# Altium schematic symbol library Keebs.SchLib: 39 symbols
Pins are listed as number, name and electrical type; pins without a type are passive.

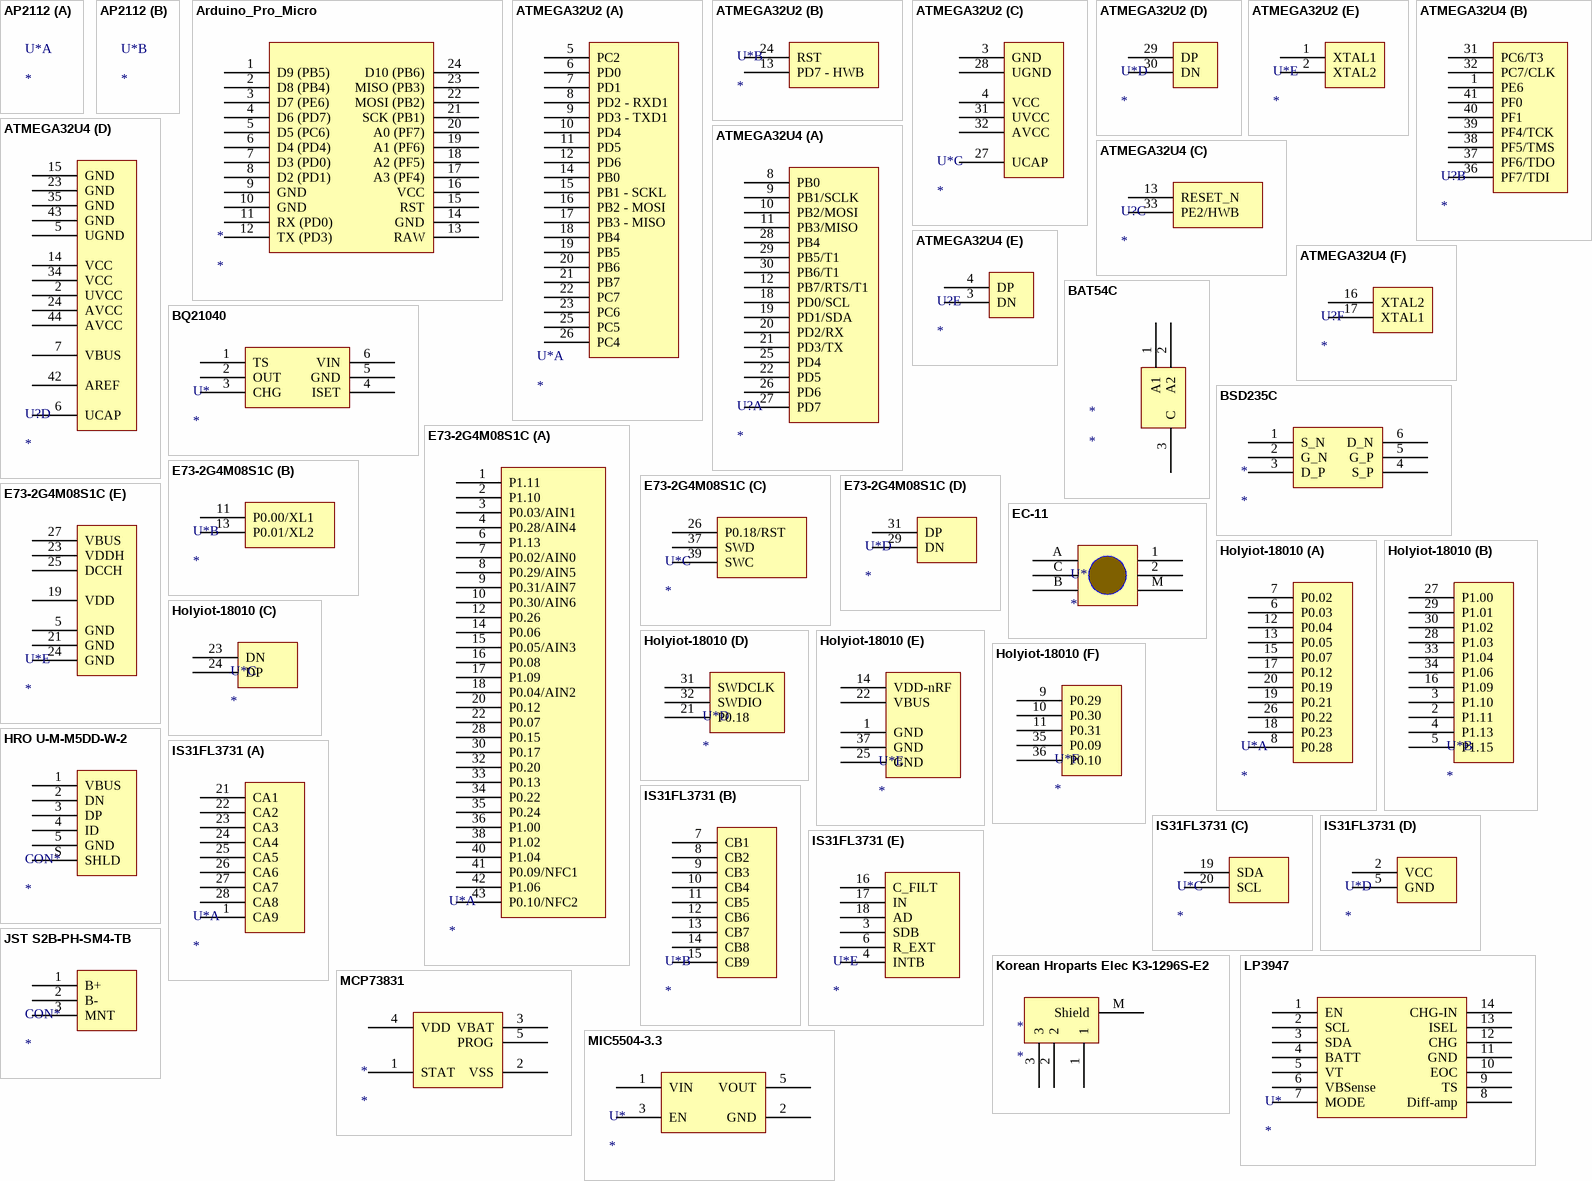
[diagram p0: symbols AP2112 to MIC5504-3.3]

## AP2112
designator U*
footprint SOT-23-5

## Arduino_Pro_Micro
designator *
footprint Arduino_Pro_Micro
pins: 1 D9 (PB5), 2 D8 (PB4), 3 D7 (PE6), 4 D6 (PD7), 5 D5 (PC6), 6 D4 (PD4), 7 D3 (PD0), 8 D2 (PD1), 9 GND, 10 GND, 11 RX (PD0), 12 TX (PD3), 13 RAW, 14 GND, 15 RST, 16 VCC, 17 A3 (PF4), 18 A2 (PF5), 19 A1 (PF6), 20 A0 (PF7), 21 SCK (PB1), 22 MOSI (PB2), 23 MISO (PB3), 24 D10 (PB6)

## ATMEGA32U2
designator U*
MFG: Microchip Technology; MFGPN: ATMEGA32U2-AUR
footprint ATMEGA32U2-LQFP
part A pins: 5 PC2, 6 PD0, 7 PD1, 8 PD2 - RXD1, 9 PD3 - TXD1, 10 PD4, 11 PD5, 12 PD6, 14 PB0, 15 PB1 - SCKL, 16 PB2 - MOSI, 17 PB3 - MISO, 18 PB4, 19 PB5, 20 PB6, 21 PB7, 22 PC7, 23 PC6, 25 PC5, 26 PC4
part B pins: 13 PD7 - HWB, 24 RST
part C pins: 3 GND, 4 VCC, 27 UCAP, 28 UGND, 31 UVCC, 32 AVCC
part D pins: 29 DP, 30 DN
part E pins: 1 XTAL1, 2 XTAL2

## ATMEGA32U4
designator U?
footprint ATMEGA32U4-COMBO (QFP, 44-Leads, Body 9,95x9,95mm, Pitch 0,80mm, IPC Medium Density)
part A pins: 8 PB0, 9 PB1/SCLK, 10 PB2/MOSI, 11 PB3/MISO, 12 PB7/RTS/T1, 18 PD0/SCL, 19 PD1/SDA, 20 PD2/RX, 21 PD3/TX, 22 PD5, 25 PD4, 26 PD6, 27 PD7, 28 PB4, 29 PB5/T1, 30 PB6/T1
part B pins: 1 PE6, 31 PC6/T3, 32 PC7/CLK, 36 PF7/TDI, 37 PF6/TDO, 38 PF5/TMS, 39 PF4/TCK, 40 PF1, 41 PF0
part C pins: 13 RESET_N, 33 PE2/HWB
part D pins: 2 UVCC, 5 UGND, 6 UCAP, 7 VBUS, 14 VCC, 15 GND, 23 GND, 24 AVCC, 34 VCC, 35 GND, 42 AREF, 43 GND, 44 AVCC
part E pins: 3 DN, 4 DP
part F pins: 16 XTAL2, 17 XTAL1

## BAT54C
designator *
footprint SOT-23-3 (3.3v regulator, used in Windsond S2 proto 1)
pins: 1 A1, 2 A2, 3 C

## BQ21040
designator U*
footprint SOT-23-6
pins: 1 TS, 2 OUT, 3 CHG, 4 ISET, 5 GND, 6 VIN

## BSD235C
designator *
footprint SOT-363 - BSD235C (SOT23, 6-Leads, Body 2,00x2,10mm, Pitch 0,65mm, IPC Low Density)
pins: 1 S_N, 2 G_N, 3 D_P, 4 S_P, 5 G_P, 6 D_N

## E73-2G4M08S1C
designator U*
footprint E73-2G4M08S1C
part A pins: 1 P1.11, 2 P1.10, 3 P0.03/AIN1, 4 P0.28/AIN4, 6 P1.13, 7 P0.02/AIN0, 8 P0.29/AIN5, 9 P0.31/AIN7, 10 P0.30/AIN6, 12 P0.26, 14 P0.06, 15 P0.05/AIN3, 16 P0.08, 17 P1.09, 18 P0.04/AIN2, 20 P0.12, 22 P0.07, 28 P0.15, 30 P0.17, 32 P0.20, 33 P0.13, 34 P0.22, 35 P0.24, 36 P1.00, 38 P1.02, 40 P1.04, 41 P0.09/NFC1, 42 P1.06, 43 P0.10/NFC2
part B pins: 11 P0.00/XL1, 13 P0.01/XL2
part C pins: 26 P0.18/RST, 37 SWD, 39 SWC
part D pins: 29 DN, 31 DP
part E pins: 5 GND, 19 VDD, 21 GND, 23 VDDH, 24 GND, 25 DCCH, 27 VBUS

## EC-11
designator U*
footprint EC11-SMD
pins: 1, 2, A B, B, C, M

## Holyiot-18010
designator U*
footprint Holyiot-18010 - removed pads (Holyiot long range Nordic nRF52840 chipset BLE module Ceramic Antenna Bluetooth low Energy for Bluetooth mesh)
footprint Holyiot-18010 - outer pads (Holyiot long range Nordic nRF52840 chipset BLE module Ceramic Antenna Bluetooth low Energy for Bluetooth mesh)
part A pins: 6 P0.03, 7 P0.02, 8 P0.28, 12 P0.04, 13 P0.05, 15 P0.07, 17 P0.12, 18 P0.23, 19 P0.21, 20 P0.19, 26 P0.22
part B pins: 2 P1.11, 3 P1.10, 4 P1.13, 5 P1.15, 16 P1.09, 27 P1.00, 28 P1.03, 29 P1.01, 30 P1.02, 33 P1.04, 34 P1.06
part C pins: 23 DN, 24 DP
part D pins: 21 P0.18, 31 SWDCLK, 32 SWDIO
part E pins: 1 GND, 14 VDD-nRF, 22 VBUS, 25 GND, 37 GND
part F pins: 9 P0.29, 10 P0.30, 11 P0.31, 35 P0.09, 36 P0.10

## HRO U-M-M5DD-W-2
designator CON*
footprint HRO U-M-M5DD-W-2
pins: 1 VBUS, 2 DN, 3 DP, 4 ID, 5 GND, S SHLD

## IS31FL3731
designator U*
MFGPN: IS31FL3731-SALS2; MFG: ISSI, Integrated Silicon Solution Inc
footprint IS31FL3731 - SOP28
footprint IS31FL3731 - QFN
part A pins: 1 CA9, 21 CA1, 22 CA2, 23 CA3, 24 CA4, 25 CA5, 26 CA6, 27 CA7, 28 CA8
part B pins: 7 CB1, 8 CB2, 9 CB3, 10 CB4, 11 CB5, 12 CB6, 13 CB7, 14 CB8, 15 CB9
part C pins: 19 SDA, 20 SCL
part D pins: 2 VCC, 5 GND
part E pins: 3 SDB, 4 INTB, 6 R_EXT, 16 C_FILT, 17 IN, 18 AD

## JST S2B-PH-SM4-TB
designator CON*
footprint JST S2B-PH-SM4-TB
pins: 1 B+, 2 B-, 3 MNT

## Korean Hroparts Elec K3-1296S-E2
designator *
footprint Korean Hroparts Elec K3-1296S-E2
pins: 1, 2, 3, M Shield

## LP3947
designator U*
pins: 1 EN, 2 SCL, 3 SDA, 4 BATT, 5 VT, 6 VBSense, 7 MODE, 8 Diff-amp, 9 TS, 10 EOC, 11 GND, 12 CHG, 13 ISEL, 14 CHG-IN

## MCP73831
designator *
footprint SOT-23-5
pins: 1 STAT, 2 VSS, 3 VBAT, 4 VDD, 5 PROG

## MIC5504-3.3
designator U*
MFG: Microchip Technology; MFGPN: MIC5504-3.3YM5-TR
footprint SOT-23-5
pins: 1 VIN, 2 GND, 3 EN, 5 VOUT

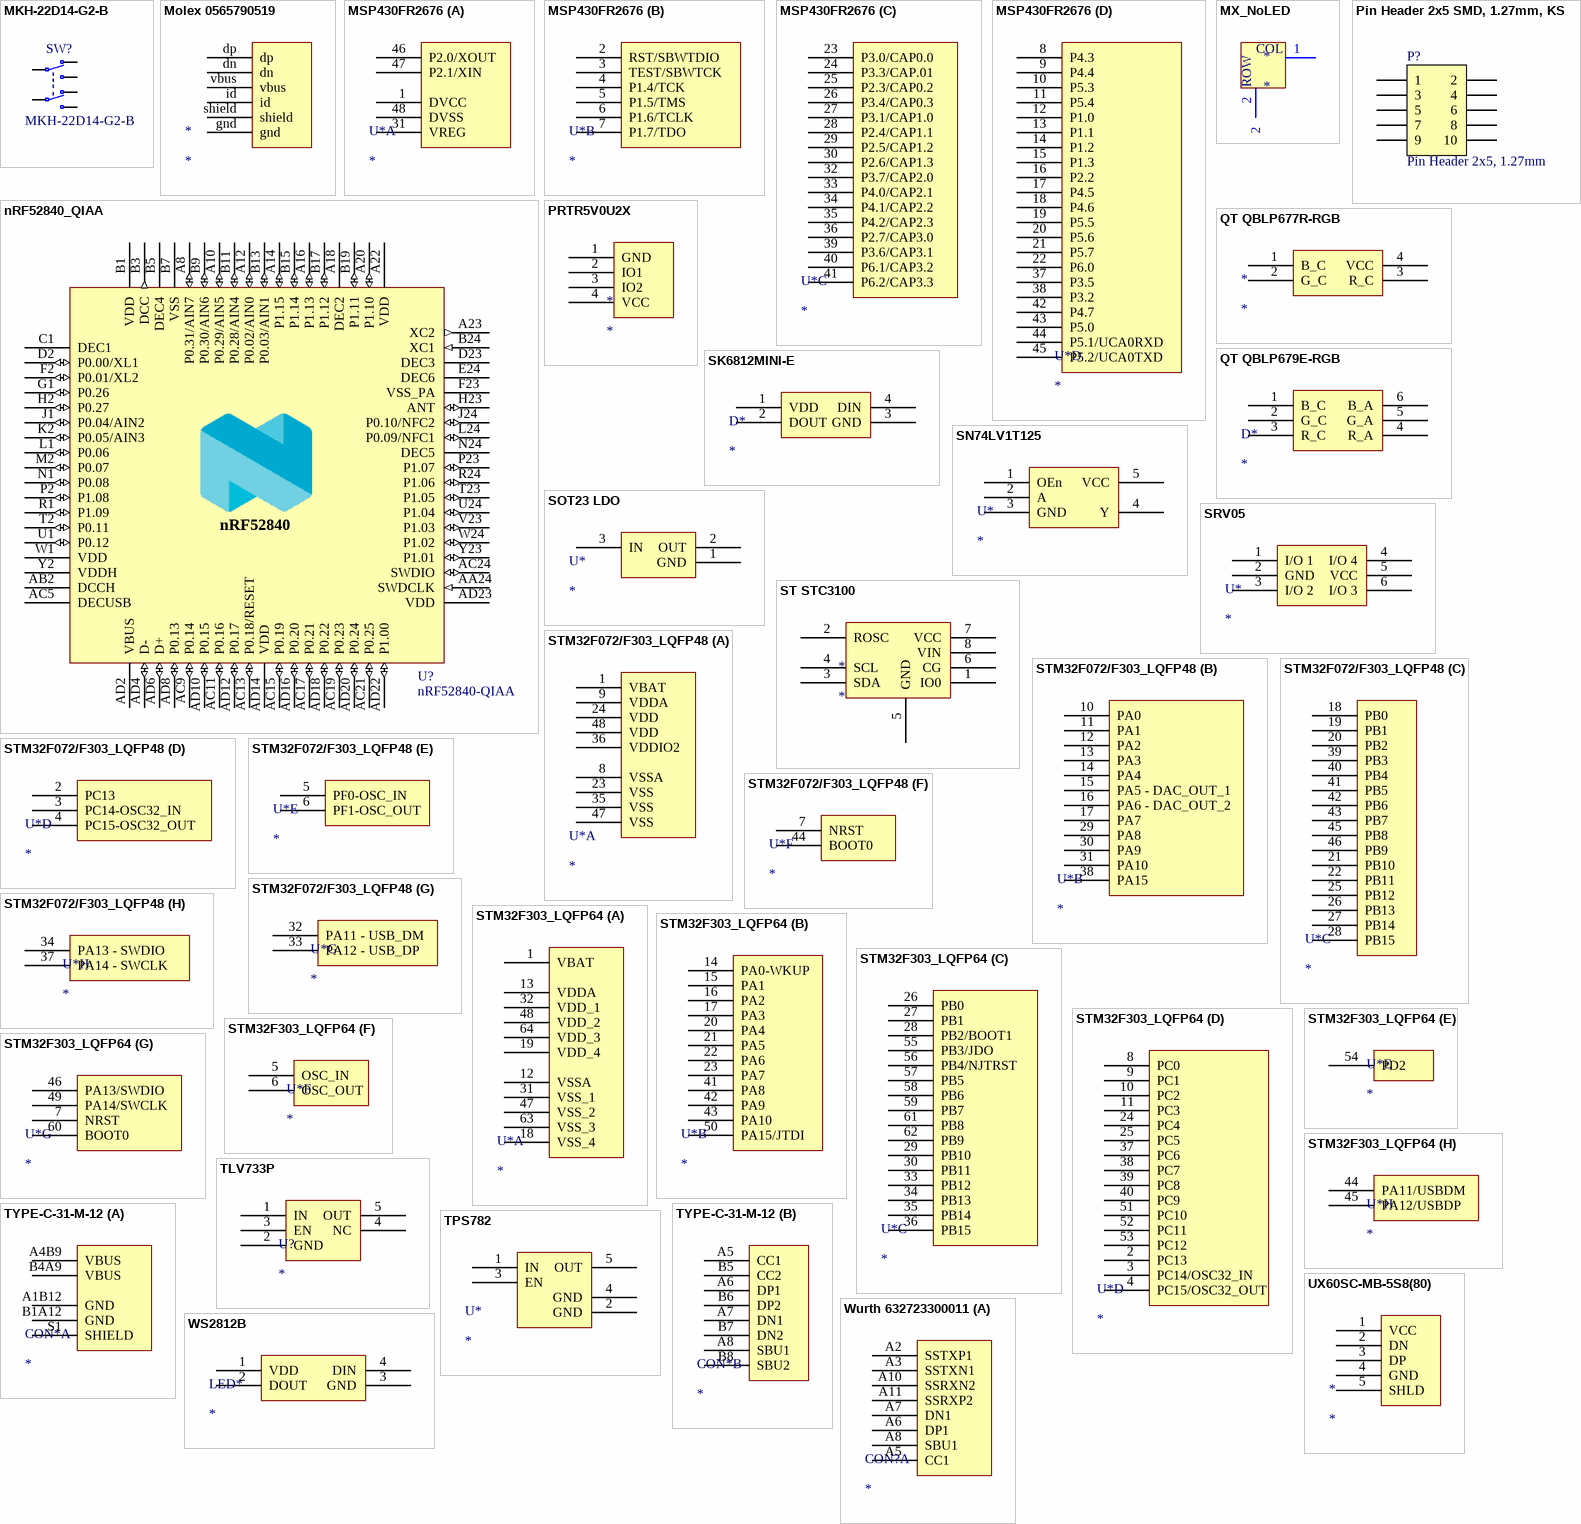
[diagram p1: symbols MKH-22D14-G2-B to Wurth 632723300011]

## MKH-22D14-G2-B
designator SW?
Slide Switch DPDT; Manufacturer: Dailywell; Artikkelnr Noca: 50019112; Artikkelnr Simpro: N.A.; Part Number: MKH-22D14-G2-B; Manufacturer Part Number: MKH-22D14-G2-B; Datasheet: \\hizz\pro\app9717\Datasheet\switches\Dailywell\MKH-22D14-G2-B.pdf; Footprint Doc: MKH-22D14-G2-B; LatestRevisionDate: 2016-08-18; Pin Count: 6; Publisher: Nordic Semiconductor; Published: 2016-08-18; Value: MKH-22D14-G2-B; Note: *; Supplier: *; Supplier part number: *; 2nd source Supplier: *; 2nd source part number: *
footprint MKH-22D14-G2-B
pins: 1 N.O-1, 2 COM-1, 3 N.C-1, 4 N.O-2, 5 COM-2, 6 N.C-2

## Molex 0565790519
designator *
footprint Molex 0565790519 (CONN RCPT USB2.0 MINI AB 5P R/A)
pins: dn, dp, gnd, id, shield, vbus

## MSP430FR2676
designator U*
footprint MSP430FR2676 QFP
part A pins: 1 DVCC, 31 VREG, 46 P2.0/XOUT, 47 P2.1/XIN, 48 DVSS
part B pins: 2 RST/SBWTDIO, 3 TEST/SBWTCK, 4 P1.4/TCK, 5 P1.5/TMS, 6 P1.6/TCLK, 7 P1.7/TDO
part C pins: 23 P3.0/CAP0.0, 24 P3.3/CAP.01, 25 P2.3/CAP0.2, 26 P3.4/CAP0.3, 27 P3.1/CAP1.0, 28 P2.4/CAP1.1, 29 P2.5/CAP1.2, 30 P2.6/CAP1.3, 32 P3.7/CAP2.0, 33 P4.0/CAP2.1, 34 P4.1/CAP2.2, 35 P4.2/CAP2.3, 36 P2.7/CAP3.0, 39 P3.6/CAP3.1, 40 P6.1/CAP3.2, 41 P6.2/CAP3.3
part D pins: 8 P4.3, 9 P4.4, 10 P5.3, 11 P5.4, 12 P1.0, 13 P1.1, 14 P1.2, 15 P1.3, 16 P2.2, 17 P4.5, 18 P4.6, 19 P5.5, 20 P5.6, 21 P5.7, 22 P6.0, 37 P3.5, 38 P3.2, 42 P4.7, 43 P5.0, 44 P5.1/UCA0RXD, 45 P5.2/UCA0TXD

## MX_NoLED
designator *
pins: 1 COL, 2
text: ROW

## nRF52840_QIAA
designator U?, comment nRF52840-QIAA
Multi-protocol Bluetooth Low Energy, IEEE 802.15.4, ANT and 2.4GHz proprietary system-on-chip; Part Number: nRF52840-QIAAC0; Manufacturer: Nordic Semiconductor; Artikkelnr Noca: N.A.; Manufacturer Part Number: nRF52840-QIAAC0; LatestRevisionDate: 2017-12-06; Pin Count: 73; Publisher: Nordic Semiconductor; Published: 2017-08-21; Value: nRF52840-QIAA; Note: *; Supplier: Nordic Semiconductor; Supplier part number: nRF52840-QIAAC0; 2nd source Supplier: *; 2nd source part number: *; Footprint Doc: AQFN-73; Artikkelnr Simpro: N.A.; Part number IPS: N.A.; ComponentLink1URL: *; ComponentLink1Description: Datasheet; ComponentLink2URL: *; ComponentLink2Description: Supplier link; HelpURL: *
footprint AQFN50P700X700X85_HS-74N
pins: 74 GND (power) hidden to GND, A8 P0.31/AIN7 (io), A10 P0.29/AIN5 (io), A12 P0.02/AIN0 (io), A14 P1.15 (io), A16 P1.13 (io), A18 DEC2 (power), A20 P1.10 (io), A22 VDD (power), A23 XC2 (out), AA24 SWDCLK (in), AB2 DCCH (power), AC5 DECUSB (power), AC9 P0.14 (io), AC11 P0.16 (io), AC13 P0.18/RESET (io), AC15 P0.19 (io), AC17 P0.21 (io), AC19 P0.23 (io), AC21 P0.25 (io), AC24 SWDIO (io), AD2 VBUS (power), AD4 D- (io), AD6 D+ (io), AD8 P0.13 (io), AD10 P0.15 (io), AD12 P0.17 (io), AD14 VDD (power), AD16 P0.20 (io), AD18 P0.22 (io), AD20 P0.24 (io), AD22 P1.00 (io), AD23 VDD (power), B1 VDD (power), B3 DCC (out), B5 DEC4 (power), B7 VSS (power), B9 P0.30/AIN6 (io), B11 P0.28/AIN4 (io), B13 P0.03/AIN1 (io), B15 P1.14 (io), B17 P1.12 (io), B19 P1.11 (io), B24 XC1 (in), C1 DEC1 (power), D2 P0.00/XL1 (io), D23 DEC3 (power), E24 DEC6 (power), F2 P0.01/XL2 (io), F23 VSS_PA (power), G1 P0.26 (io), H2 P0.27 (io), H23 ANT (io), J1 P0.04/AIN2 (io), J24 P0.10/NFC2 (io), K2 P0.05/AIN3 (io), L1 P0.06 (io), L24 P0.09/NFC1 (io), M2 P0.07 (io), N1 P0.08 (io), N24 DEC5 (power), P2 P1.08 (io), P23 P1.07 (io), R1 P1.09 (io), R24 P1.06 (io), T2 P0.11 (io), T23 P1.05 (io), U1 P0.12 (io), U24 P1.04 (io), V23 P1.03 (io), W1 VDD (power), W24 P1.02 (io), Y2 VDDH (power), Y23 P1.01 (io)
text: nRF52840

## Pin Header 2x5 SMD, 1.27mm, KS
designator P?, comment Pin Header 2x5, 1.27mm
Pin Header 2x5, 1.27mm (50mil), SMD, Keying Shroud; Part Number: Pin Header 2x5 SMD, 1.27mm, KS; Manufacturer: W-CON; Manufacturer Part Number: 3132-10MS0BK00R1; 2nd source part number: FTSH-105-01-F-DV-K; Artikkelnr Noca: 55010009; Artikkelnr Simpro: N.A.; Datasheet: \\hizz\pro\app9717\Datasheet\connectores\W-CON\3132-XXMXXBK00XX.pdf; Footprint Doc: HDR_2x5-SMD-1.27mm; LatestRevisionDate: 2016-04-21; Pin Count: 10; Publisher: Nordic Semiconductor; Published: 2016-01-22; Value: Pin Header 2x5, 1.27mm; Note: *; Supplier: Cabcon; Supplier part number: 3132-10MS0BK00R1; 2nd source Supplier: Samtec
footprint HDR_2x5-SMD-1.27mm-K
pins: 1, 2, 3, 4, 5, 6, 7, 8, 9, 10

## PRTR5V0U2X
designator *
footprint SOT190P237X120-4N (SOT143, 4-Leads, Body 3,00x2,37mm, Pitch 1,90mm, IPC Medium Density)
pins: 1 GND, 2 IO1, 3 IO2, 4 VCC

## QT QBLP677R-RGB
designator *
footprint QT QBLP677R-RGB
pins: 1 B_C, 2 G_C, 3 R_C, 4 VCC

## QT QBLP679E-RGB
designator D*
MFG: QT Brightek (QTB); MFGPN: QBLP679E-RGB
footprint QT QBLP679E-RGB (5x5 RGB LED 6-pin)
pins: 1 B_C, 2 G_C, 3 R_C, 4 R_A, 5 G_A, 6 B_A

## SK6812MINI-E
designator D*
footprint SK6812MINI-E
pins: 1 VDD, 2 DOUT, 3 GND, 4 DIN

## SN74LV1T125
designator U*
SN74LV1T125 or SN74LV1T34. Connect OE to GND
footprint SOT-23-5
pins: 1 OEn, 2 A, 3 GND, 4 Y, 5 VCC

## SOT23 LDO
designator U*
MRF.Part: XC6206P332MR; LCSC MFG: Torex Semicon; MFG: Texas Instruments; MFGPN: TPS7A0533PDBZ; LCSC Part #: C5446
footprint SOT-23-3 (3.3v regulator, used in Windsond S2 proto 1)
pins: 1 GND, 2 OUT, 3 IN

## SRV05
designator U*
footprint SOT-23-6
pins: 1 I/O 1, 2 GND, 3 I/O 2, 4 I/O 4, 5 VCC, 6 I/O 3

## ST STC3100
designator *
footprint STC3100 MiniSO-8
pins: 1 IO0, 2 ROSC, 3 SDA, 4 SCL, 5 GND, 6 CG, 7 VCC, 8 VIN

## STM32F072/F303_LQFP48
designator U*
MFG: STMicroelectronics; MFGPN: STM32F072CBT6TR
footprint STM32 - LQFP48, 7x7mm (LQFP48, 7x7mm)
part A pins: 1 VBAT, 8 VSSA, 9 VDDA, 23 VSS, 24 VDD, 35 VSS, 36 VDDIO2, 47 VSS, 48 VDD
part B pins: 10 PA0, 11 PA1, 12 PA2, 13 PA3, 14 PA4, 15 PA5 - DAC_OUT_1, 16 PA6 - DAC_OUT_2, 17 PA7, 29 PA8, 30 PA9, 31 PA10, 38 PA15
part C pins: 18 PB0, 19 PB1, 20 PB2, 21 PB10, 22 PB11, 25 PB12, 26 PB13, 27 PB14, 28 PB15, 39 PB3, 40 PB4, 41 PB5, 42 PB6, 43 PB7, 45 PB8, 46 PB9
part D pins: 2 PC13, 3 PC14-OSC32_IN, 4 PC15-OSC32_OUT
part E pins: 5 PF0-OSC_IN, 6 PF1-OSC_OUT
part F pins: 7 NRST, 44 BOOT0
part G pins: 32 PA11 - USB_DM, 33 PA12 - USB_DP
part H pins: 34 PA13 - SWDIO, 37 PA14 - SWCLK

## STM32F303_LQFP64
designator U*
footprint STM32 - LQFP64, 10x10mm (TSQFP, 64-Leads, Body 10.00x10.00mm, Pitch 0.50mm, IPC Medium Density)
part A pins: 1 VBAT, 12 VSSA, 13 VDDA, 18 VSS_4, 19 VDD_4, 31 VSS_1, 32 VDD_1, 47 VSS_2, 48 VDD_2, 63 VSS_3, 64 VDD_3
part B pins: 14 PA0-WKUP, 15 PA1, 16 PA2, 17 PA3, 20 PA4, 21 PA5, 22 PA6, 23 PA7, 41 PA8, 42 PA9, 43 PA10, 50 PA15/JTDI
part C pins: 26 PB0, 27 PB1, 28 PB2/BOOT1, 29 PB10, 30 PB11, 33 PB12, 34 PB13, 35 PB14, 36 PB15, 55 PB3/JDO, 56 PB4/NJTRST, 57 PB5, 58 PB6, 59 PB7, 61 PB8, 62 PB9
part D pins: 2 PC13, 3 PC14/OSC32_IN, 4 PC15/OSC32_OUT, 8 PC0, 9 PC1, 10 PC2, 11 PC3, 24 PC4, 25 PC5, 37 PC6, 38 PC7, 39 PC8, 40 PC9, 51 PC10, 52 PC11, 53 PC12
part E pins: 54 PD2
part F pins: 5 OSC_IN, 6 OSC_OUT
part G pins: 7 NRST, 46 PA13/SWDIO, 49 PA14/SWCLK, 60 BOOT0
part H pins: 44 PA11/USBDM, 45 PA12/USBDP

## TLV733P
designator U?
footprint SOT-23-5
pins: 1 IN, 2 GND, 3 EN, 4 NC, 5 OUT

## TPS782
designator U*
footprint SOT-23-5
pins: 1 IN, 2 GND, 3 EN, 4 GND, 5 OUT

## TYPE-C-31-M-12
designator CON*
MFG: Korean Hroparts Elec; MFGPN: TYPE-C-31-M-12
footprint TYPE-C-31-M-12
part A pins: A1B12 GND, A4B9 VBUS, B1A12 GND, B4A9 VBUS, S1 SHIELD
part B pins: A5 CC1, A6 DP1, A7 DN1, A8 SBU1, B5 CC2, B6 DP2, B7 DN2, B8 SBU2

## UX60SC-MB-5S8(80)
designator *
footprint UX60SC-MB-5S8(80)
pins: 1 VCC, 2 DN, 3 DP, 4 GND, 5 SHLD

## WS2812B
designator LED*
MFGPN: WS2812B
footprint WS2812B
pins: 1 VDD, 2 DOUT, 3 GND, 4 DIN

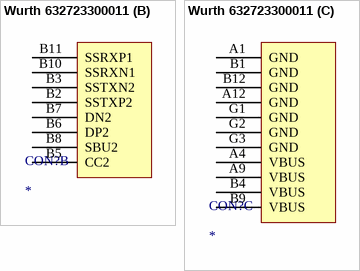
[diagram p2: symbol Wurth 632723300011]

## Wurth 632723300011
designator CON?, comment for up to 1.6mm pcb  (value not drawn)
MFGPN: 632723300011; MFG: Wurth Electronics; Comment_1: *
footprint Wurth 632723300011
part A pins: A2 SSTXP1, A3 SSTXN1, A5 CC1, A6 DP1, A7 DN1, A8 SBU1, A10 SSRXN2, A11 SSRXP2
part B pins: B2 SSTXP2, B3 SSTXN2, B5 CC2, B6 DP2, B7 DN2, B8 SBU2, B10 SSRXN1, B11 SSRXP1
part C pins: A1 GND, A4 VBUS, A9 VBUS, A12 GND, B1 GND, B4 VBUS, B9 VBUS, B12 GND, G1 GND, G2 GND, G3 GND